# Altium schematic symbol library Операционный усилитель.SchLib: 5 symbols
Pins are listed as number, name and electrical type; pins without a type are passive.

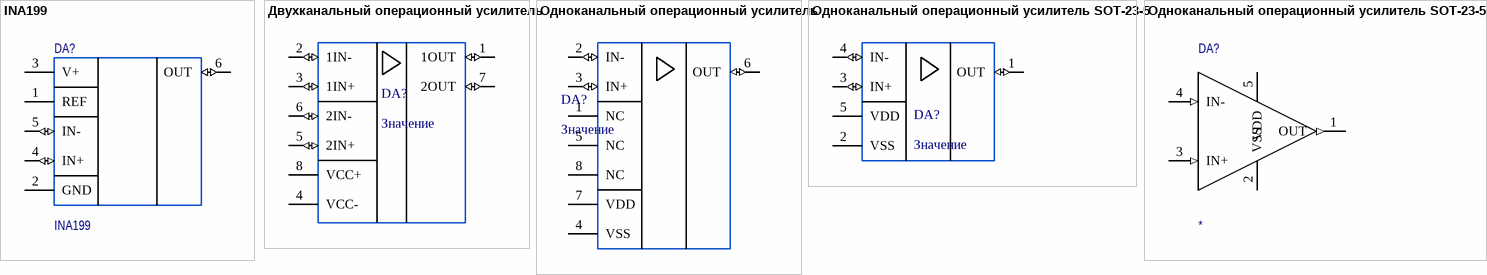
[diagram p0: symbols INA199 to Одноканальный операционный усилитель SOT-23-5_2]

## INA199
designator DA?
SC-70-6 Current-Sensing Amplifiers ROHS; Value: INA199; Part: *; Alternative part: *; ComponentLink1Description: Link; ComponentLink1URL: *; ComponentLink2Description: Alternative link; ComponentLink2URL: *
footprint SC70
pins: 1 REF (power) "POWER", 2 GND (power) "POWER", 3 V+ (power) "POWER", 4 IN+ (io) "I/O", 5 IN- (io) "I/O", 6 OUT (io) "I/O"

## Двухканальный операционный усилитель
designator DA?, comment Значение
Value: Значение; Part: *; Alternative part: *; ComponentLink1Description: New link; ComponentLink1URL: *
pins: 1 1OUT (io) "OUTPUT", 2 1IN- (io) "INPUT", 3 1IN+ (io) "INPUT", 4 VCC- "POWER", 5 2IN+ (io) "INPUT", 6 2IN- (io) "INPUT", 7 2OUT (io) "OUTPUT", 8 VCC+ "POWER"

## Одноканальный операционный усилитель
designator DA?, comment Значение
Value: Значение; Part: *; Alternative part: *; ComponentLink1Description: New link; ComponentLink1URL: *
pins: 1 NC "POWER", 2 IN- (io) "INPUT", 3 IN+ (io) "INPUT", 4 VSS "POWER", 5 NC "POWER", 6 OUT (io) "INPUT", 7 VDD "POWER", 8 NC "POWER"

## Одноканальный операционный усилитель SOT-23-5
designator DA?, comment Значение
Part: *; Alternative part: *; ComponentLink1Description: New link; ComponentLink1URL: *; Value: Значение
footprint SOT-23-5
pins: 1 OUT (io) "INPUT", 2 VSS "POWER", 3 IN+ (io) "INPUT", 4 IN- (io) "INPUT", 5 VDD "POWER"

## Одноканальный операционный усилитель SOT-23-5_2
designator DA?
Alternative part: *; ComponentLink1Description: New link; ComponentLink1URL: *; Part: *; Value: *
footprint SOT-23-5
pins: 1 OUT (out) "INPUT", 2 VSS "POWER", 3 IN+ (in) "INPUT", 4 IN- (in) "INPUT", 5 VDD "POWER"